# EAGLE library part STD043F06X2 (library con-pinheader-standard)
female standard header 2mm, 4.3mm height
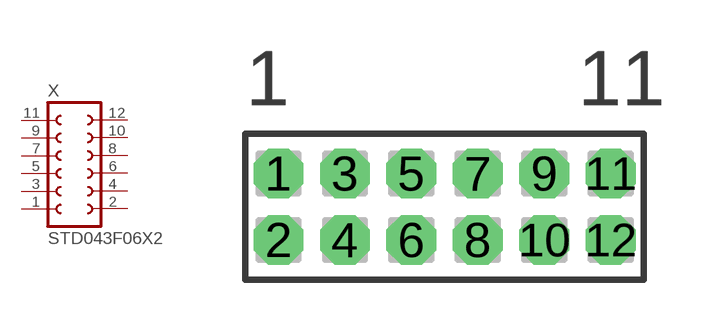
[diagram p19: symbol with the pads of STD043F06X2-2.00; footprint STD043F06X2-2.00]

Designator prefix X

## STD043F06X2-2.00MM  [STD043F06X2-2.00]
1  1  pas
2  2  pas
3  3  pas
4  4  pas
5  5  pas
6  6  pas
7  7  pas
8  8  pas
9  9  pas
10  10  pas
11  11  pas
12  12  pas

## Footprint STD043F06X2-2.00 (pad centres in mm)
female standard header 2mm, 4.3mm height
drill 0.8 pad 1.5 octagon: 1 -5,1; 2 -5,-1; 3 -3,1; 4 -3,-1; 5 -1,1; 6 -1,-1; 7 1,1; 8 1,-1; 9 3,1; 10 3,-1; 11 5,1; 12 5,-1